# Altium footprint library Animated Archer.PcbLib: 32 footprints (part 2 of 2)
Each footprint in its own frame and in the unit in brackets; x right, y up, seen from the top. Pads: shape width x height; smd on the part's side, far side on the other; paste and mask are expansions set on the pad; w line width, h text height; cw(c..) or ccw(c..) is an arc to the next point about the centre after c.
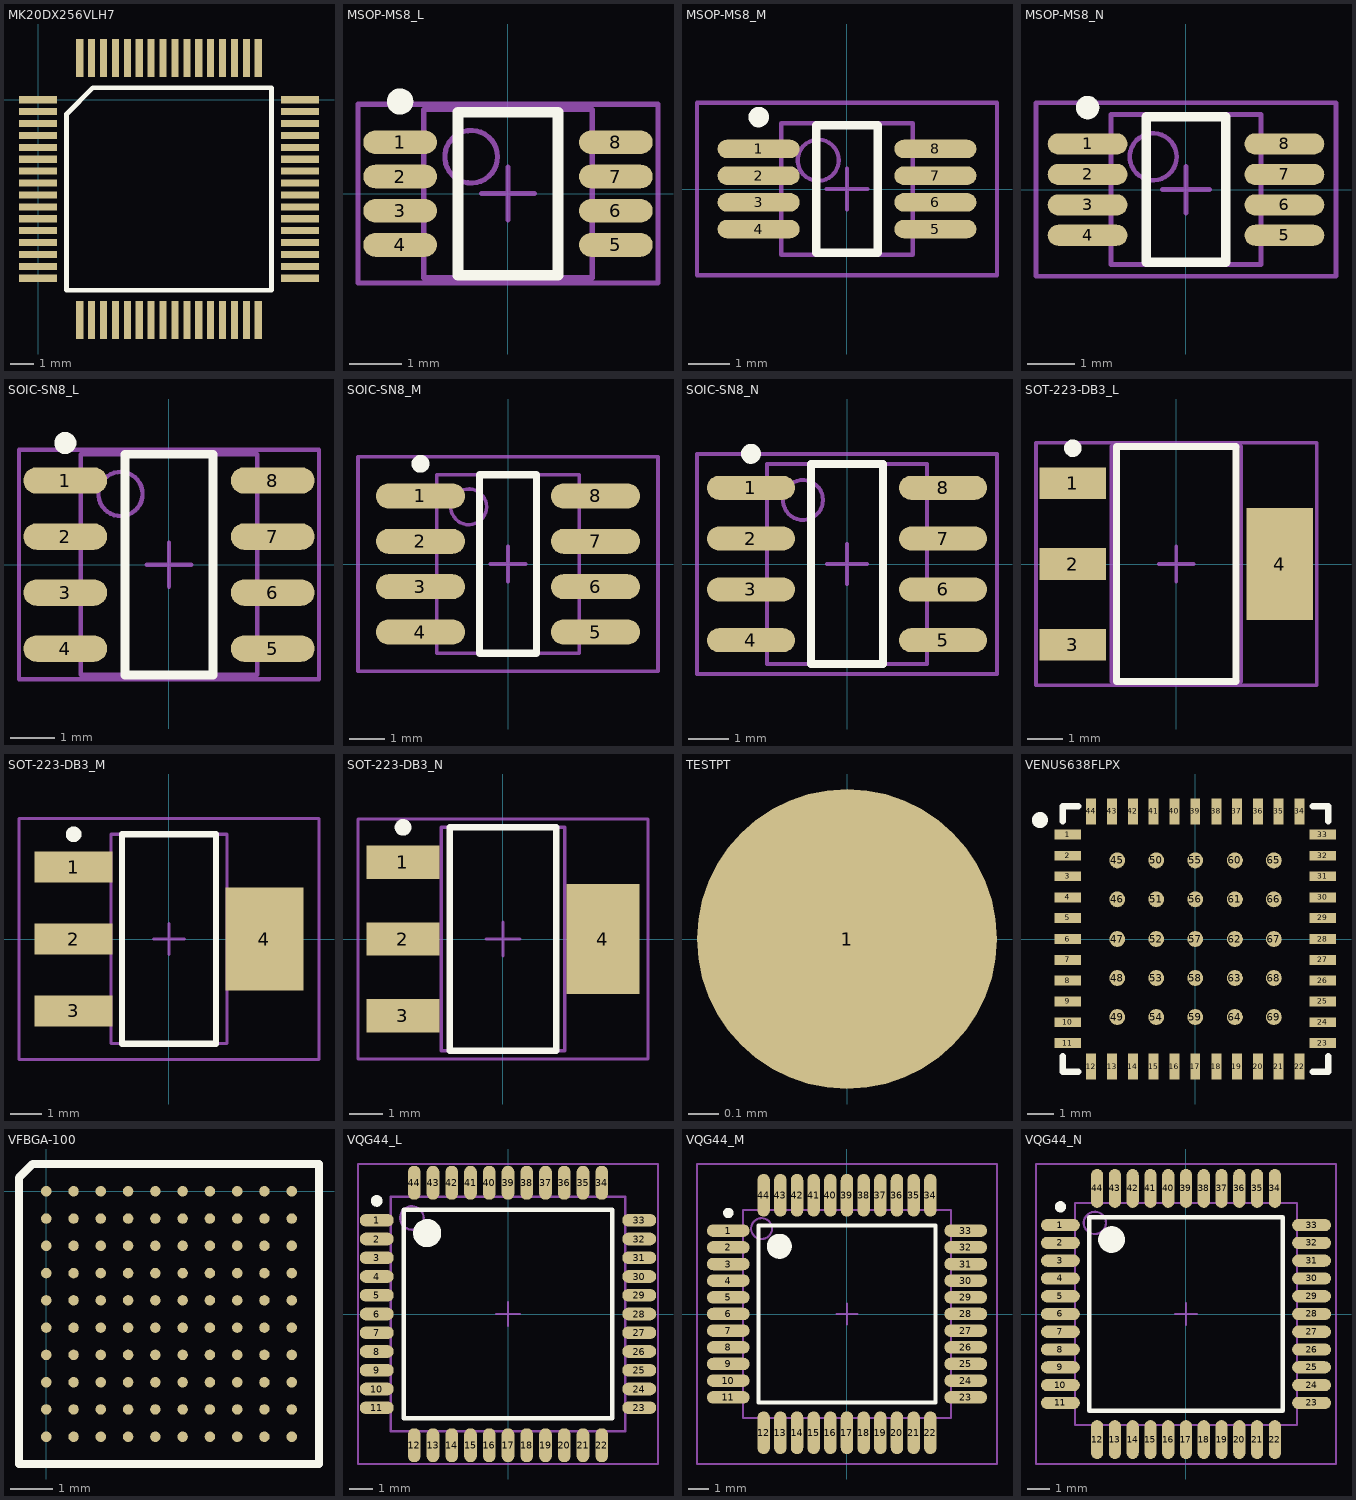
[diagram p1: the footprints below, top view; thin cyan lines are the x and y axes]

## MK20DX256VLH7 [mm] "Freescale ARM Cortex-M4"
height 1.6
pads (64):
  rect 1.6x0.3 smd mask+0.05: 1(0,0) 2(0,-0.5) 3(0,-1) 4(0,-1.5) 5(0,-2) 6(0,-2.5) 7(0,-3) 8(0,-3.5) 9(0,-4) 10(0,-4.5) 11(0,-5) 12(0,-5.5) 13(0,-6) 14(0,-6.5) 15(0,-7) 16(0,-7.5) 33(11,-7.5) 34(11,-7) 35(11,-6.5) 36(11,-6) 37(11,-5.5) 38(11,-5) 39(11,-4.5) 40(11,-4) 41(11,-3.5) 42(11,-3) 43(11,-2.5) 44(11,-2) 45(11,-1.5) 46(11,-1) 47(11,-0.5) 48(11,0)
  rect 0.3x1.6 smd mask+0.05: 17(1.75,-9.25) 18(2.25,-9.25) 19(2.75,-9.25) 20(3.25,-9.25) 21(3.75,-9.25) 22(4.25,-9.25) 23(4.75,-9.25) 24(5.25,-9.25) 25(5.75,-9.25) 26(6.25,-9.25) 27(6.75,-9.25) 28(7.25,-9.25) 29(7.75,-9.25) 30(8.25,-9.25) 31(8.75,-9.25) 32(9.25,-9.25) 49(9.25,1.75) 50(8.75,1.75) 51(8.25,1.75) 52(7.75,1.75) 53(7.25,1.75) 54(6.75,1.75) 55(6.25,1.75) 56(5.75,1.75) 57(5.25,1.75) 58(4.75,1.75) 59(4.25,1.75) 60(3.75,1.75) 61(3.25,1.75) 62(2.75,1.75) 63(2.25,1.75) 64(1.75,1.75)
Top Overlay:
  lines w0.2: 1.2,-8 1.2,-0.6 2.3,0.5 9.8,0.5 9.8,-8 1.2,-8

## MSOP-MS8_L [mm] "TSOP, 8-Leads, Body 3x3mm, Pitch 0.65mm, IPC High Density"
height 1.1
pads (8):
  oval 1.4x0.45 smd: 1(-2.05,0.975) 2(-2.05,0.325) 3(-2.05,-0.325) 4(-2.05,-0.975) 5(2.05,-0.975) 6(2.05,-0.325) 7(2.05,0.325) 8(2.05,0.975)
Top Overlay:
  circle w0.25: c-2.05,1.75 r0.125
  lines w0.2: -0.95,-1.55 0.95,-1.55 0.95,1.55 -0.95,1.55 -0.95,-1.55
Mechanical 13:
  circle w0.1: c-0.7,0.7 r0.5
  lines w0.1: -1.6,-1.6 1.6,-1.6 1.6,1.6 -1.6,1.6 -1.6,-1.6
Mechanical 15:
  lines w0.1: -0.5,0 0.5,0 ; 0,-0.5 0,0.5 ; -2.85,-1.7 2.85,-1.7 2.85,1.7 -2.85,1.7 -2.85,-1.7
3D body: height 1.1, standoff 0, extent -1.6,-1.6 1.6,1.6

## MSOP-MS8_M [mm] "TSOP, 8-Leads, Body 3x3mm, Pitch 0.65mm, IPC Low Density"
height 1.1
pads (8):
  oval 2x0.45 smd: 1(-2.15,0.975) 2(-2.15,0.325) 3(-2.15,-0.325) 4(-2.15,-0.975) 5(2.15,-0.975) 6(2.15,-0.325) 7(2.15,0.325) 8(2.15,0.975)
Top Overlay:
  circle w0.25: c-2.15,1.75 r0.125
  lines w0.2: -0.75,-1.55 0.75,-1.55 0.75,1.55 -0.75,1.55 -0.75,-1.55
Mechanical 13:
  circle w0.1: c-0.7,0.7 r0.5
  lines w0.1: -1.6,-1.6 1.6,-1.6 1.6,1.6 -1.6,1.6 -1.6,-1.6
Mechanical 15:
  lines w0.1: -0.5,0 0.5,0 ; 0,-0.5 0,0.5 ; -3.65,-2.1 3.65,-2.1 3.65,2.1 -3.65,2.1 -3.65,-2.1
3D body: height 1.1, standoff 0, extent -1.6,-1.6 1.6,1.6

## MSOP-MS8_N [mm] "TSOP, 8-Leads, Body 3x3mm, Pitch 0.65mm, IPC Medium Density"
height 1.1
pads (8):
  oval 1.7x0.45 smd: 1(-2.1,0.975) 2(-2.1,0.325) 3(-2.1,-0.325) 4(-2.1,-0.975) 5(2.1,-0.975) 6(2.1,-0.325) 7(2.1,0.325) 8(2.1,0.975)
Top Overlay:
  circle w0.25: c-2.1,1.75 r0.125
  lines w0.2: -0.85,-1.55 0.85,-1.55 0.85,1.55 -0.85,1.55 -0.85,-1.55
Mechanical 13:
  circle w0.1: c-0.7,0.7 r0.5
  lines w0.1: -1.6,-1.6 1.6,-1.6 1.6,1.6 -1.6,1.6 -1.6,-1.6
Mechanical 15:
  lines w0.1: -0.5,0 0.5,0 ; 0,-0.5 0,0.5 ; -3.2,-1.85 3.2,-1.85 3.2,1.85 -3.2,1.85 -3.2,-1.85
3D body: height 1.1, standoff 0, extent -1.6,-1.6 1.6,1.6

## SOIC-SN8_L [mm] "SOIC, 8-Leads, Body 4.9x3.8mm, Pitch 1.27mm, IPC High Density"
height 1.75
pads (8):
  oval 1.9x0.6 smd: 1(-2.35,1.905) 2(-2.35,0.635) 3(-2.35,-0.635) 4(-2.35,-1.905) 5(2.35,-1.905) 6(2.35,-0.635) 7(2.35,0.635) 8(2.35,1.905)
Top Overlay:
  circle w0.25: c-2.35,2.755 r0.125
  lines w0.2: -1,-2.5 -1,2.5 1,2.5 1,-2.5 -1,-2.5
Mechanical 13:
  circle w0.1: c-1.1,1.6 r0.5
  lines w0.1: -2,-2.5 -2,2.5 2,2.5 2,-2.5 -2,-2.5
Mechanical 15:
  lines w0.1: -0.5,0 0.5,0 ; 0,-0.5 0,0.5 ; -3.4,-2.6 -3.4,2.6 3.4,2.6 3.4,-2.6 -3.4,-2.6
3D body: height 1.75, standoff 0, extent -2,-2.5 2,2.5

## SOIC-SN8_M [mm] "SOIC, 8-Leads, Body 4.9x3.8mm, Pitch 1.27mm, IPC Low Density"
height 1.75
pads (8):
  oval 2.5x0.7 smd: 1(-2.45,1.905) 2(-2.45,0.635) 3(-2.45,-0.635) 4(-2.45,-1.905) 5(2.45,-1.905) 6(2.45,-0.635) 7(2.45,0.635) 8(2.45,1.905)
Top Overlay:
  circle w0.25: c-2.45,2.805 r0.125
  lines w0.2: -0.8,-2.5 0.8,-2.5 0.8,2.5 -0.8,2.5 -0.8,-2.5
Mechanical 13:
  circle w0.1: c-1.1,1.6 r0.5
  lines w0.1: -2,-2.5 2,-2.5 2,2.5 -2,2.5 -2,-2.5
Mechanical 15:
  lines w0.1: -0.5,0 0.5,0 ; 0,-0.5 0,0.5 ; -4.2,-3 4.2,-3 4.2,3 -4.2,3 -4.2,-3
3D body: height 1.75, standoff 0, extent -2,-2.5 2,2.5

## SOIC-SN8_N [mm] "SOIC, 8-Leads, Body 4.9x3.8mm, Pitch 1.27mm, IPC Medium Density"
height 1.75
pads (8):
  oval 2.2x0.6 smd: 1(-2.4,1.905) 2(-2.4,0.635) 3(-2.4,-0.635) 4(-2.4,-1.905) 5(2.4,-1.905) 6(2.4,-0.635) 7(2.4,0.635) 8(2.4,1.905)
Top Overlay:
  circle w0.25: c-2.4,2.755 r0.125
  lines w0.2: -0.9,-2.5 0.9,-2.5 0.9,2.5 -0.9,2.5 -0.9,-2.5
Mechanical 13:
  circle w0.1: c-1.1,1.6 r0.5
  lines w0.1: -2,-2.5 2,-2.5 2,2.5 -2,2.5 -2,-2.5
Mechanical 15:
  lines w0.1: -0.5,0 0.5,0 ; 0,-0.5 0,0.5 ; -3.75,-2.75 3.75,-2.75 3.75,2.75 -3.75,2.75 -3.75,-2.75
3D body: height 1.75, standoff 0, extent -2,-2.5 2,2.5

## SOT-223-DB3_L [mm] "SOT223, 4-Leads, Body 6.5x3.5mm, Pitch 2.3mm, Lead Span 7mm, IPC High Density"
height 1.8
pads (4):
  rect 1.9x0.9 smd: 1(-2.95,2.3) 2(-2.95,0) 3(-2.95,-2.3)
  rect 1.9x3.2 smd: 4(2.95,0)
Top Overlay:
  circle w0.25: c-2.95,3.3 r0.125
  lines w0.2: -1.7,-3.35 1.7,-3.35 1.7,3.35 -1.7,3.35 -1.7,-3.35
Mechanical 13:
  lines w0.1: -1.85,-3.35 1.85,-3.35 1.85,3.35 -1.85,3.35 -1.85,-3.35
Mechanical 15:
  lines w0.1: -0.5,0 0.5,0 ; 0,-0.5 0,0.5 ; -4,-3.45 4,-3.45 4,3.45 -4,3.45 -4,-3.45
3D body: height 1.8, standoff 0, extent -1.85,-3.35 1.85,3.35

## SOT-223-DB3_M [mm] "SOT223, 4-Leads, Body 6.5x3.5mm, Pitch 2.3mm, Lead Span 7mm, IPC Low Density"
height 1.8
pads (4):
  rect 2.5x1 smd: 1(-3.05,2.3) 2(-3.05,0) 3(-3.05,-2.3)
  rect 2.5x3.3 smd: 4(3.05,0)
Top Overlay:
  circle w0.25: c-3.05,3.35 r0.125
  lines w0.2: -1.5,-3.35 1.5,-3.35 1.5,3.35 -1.5,3.35 -1.5,-3.35
Mechanical 13:
  lines w0.1: -1.85,-3.35 1.85,-3.35 1.85,3.35 -1.85,3.35 -1.85,-3.35
Mechanical 15:
  lines w0.1: -0.5,0 0.5,0 ; 0,-0.5 0,0.5 ; -4.8,-3.85 4.8,-3.85 4.8,3.85 -4.8,3.85 -4.8,-3.85
3D body: height 1.8, standoff 0, extent -1.85,-3.35 1.85,3.35

## SOT-223-DB3_N [mm] "SOT223, 4-Leads, Body 6.5x3.5mm, Pitch 2.3mm, Lead Span 7mm, IPC Medium Density"
height 1.8
pads (4):
  rect 2.2x1 smd: 1(-3,2.3) 2(-3,0) 3(-3,-2.3)
  rect 2.2x3.3 smd: 4(3,0)
Top Overlay:
  circle w0.25: c-3,3.35 r0.125
  lines w0.2: -1.6,-3.35 1.6,-3.35 1.6,3.35 -1.6,3.35 -1.6,-3.35
Mechanical 13:
  lines w0.1: -1.85,-3.35 1.85,-3.35 1.85,3.35 -1.85,3.35 -1.85,-3.35
Mechanical 15:
  lines w0.1: -0.5,0 0.5,0 ; 0,-0.5 0,0.5 ; -4.35,-3.6 4.35,-3.6 4.35,3.6 -4.35,3.6 -4.35,-3.6
3D body: height 1.8, standoff 0, extent -1.85,-3.35 1.85,3.35

## TESTPT [mm] "Test Point"
pads (1):
  round 1 smd: 1(0,0)

## VENUS638FLPX [mil] "VENUS638FLPX"
pads (69):
  rect 40x15 smd: 1(-192.91,158) 2(-192.91,126) 3(-192.91,95) 4(-192.91,63) 5(-192.91,32) 6(-192.91,0) 7(-192.91,-31.5) 8(-192.91,-62.99) 9(-192.91,-94.49) 10(-192.91,-125.98) 11(-192.91,-157.48) 23(193,-157.48) 24(193,-125.98) 25(193,-94.49) 26(193,-62.99) 27(193,-31.5) 28(193,0) 29(193,32) 30(193,63) 31(193,95) 32(193,126) 33(193,158)
  rect 15x40 smd: 12(-157.48,-192.91) 13(-125.98,-192.91) 14(-94.49,-192.91) 15(-62.99,-192.91) 16(-31.5,-192.91) 17(0,-192.91) 18(32,-192.91) 19(63,-192.91) 20(95,-192.91) 21(126,-192.91) 22(158,-192.91) 34(158,193) 35(126,193) 36(95,193) 37(63,193) 38(32,193) 39(0,193) 40(-31.5,193) 41(-62.99,193) 42(-94.49,193) 43(-125.98,193) 44(-157.48,193)
  rrect100% 24x24 smd: 45(-118.11,119) 46(-118.11,60) 47(-118.11,0) 48(-118.11,-59.06) 49(-118.11,-118.11) 50(-59.06,119) 51(-59.06,60) 52(-59.06,0) 53(-59.06,-59.06) 54(-59.06,-118.11) 55(0,119) 56(0,60) 57(0,0) 58(0,-59.06) 59(0,-118.11) 60(60,119) 61(60,60) 62(60,0) 63(60,-59.06) 64(60,-118.11) 65(119,119) 66(119,60) 67(119,0) 68(119,-59.06) 69(119,-118.11)
Top Overlay:
  circle w12: c-235,180 r6
  lines w10: -200.79,-177.17 -200.79,-200.79 -177.17,-200.79 ; -200.79,178 -200.79,201 -177.17,201 ; 178,-200.79 201,-200.79 201,-177.17 ; 178,201 201,201 201,178

## VFBGA-100 [mm] "0.65mm Pitch 0.3mm Diameter 100-pin Ball Grid Array"
height 0.45
pads (100):
  round 0.25 smd paste+0.01 mask+0.055: ADVREFN(0,-1.95) ADVREFP(0.65,-2.6) GND(1.3,-5.85) GND(1.3,0) GND(5.2,0) GND(5.85,-0.65) GNDANA(0.65,-1.95) PA00(5.2,-0.65) PA01(4.55,-0.65) PA02(3.9,0) PA03(1.3,-0.65) PA04(0.65,0) PA05(0,0) PA06(1.3,-1.3) PA07(1.3,-1.95) PA08(0.65,-3.9) PA09(2.6,-3.25) PA10(0.65,-4.55) PA11(1.3,-4.55) PA12(0.65,-5.2) PA13(2.6,-4.55) PA14(3.9,-5.85) PA15(2.6,-3.9) PA16(3.9,-5.2) PA17(3.25,-4.55) PA18(5.85,-5.85) PA19(5.85,-5.2) PA20(5.85,-4.55) PA21(5.2,-2.6) PA22(5.85,-2.6) PA23(3.25,-1.95) PA24(5.85,-1.95) PA25(5.2,-1.95) PA26(5.2,-1.3) PA27(0,-5.85) PA28(0,-5.2) PA29(0.65,-5.85) PA30(1.95,-5.85) PA31(2.6,-5.85) PB00(1.3,-5.2) PB01(2.6,-1.95) PB02(2.6,-2.6) PB03(1.95,-1.3) PB04(0,-1.3) PB05(0,-0.65) PB06(1.3,-3.9) PB07(0,-4.55) PB08(3.25,-3.9) PB09(3.9,-3.9) PB10(4.55,-3.9) PB11(5.2,-5.85) PB12(3.9,-2.6) PB13(4.55,-2.6) PB14(3.9,-1.95) PB15(4.55,-1.95) PC00(5.85,0) PC01(4.55,-1.3) PC02(3.9,-1.3) PC03(3.9,-0.65) PC04(2.6,-1.3) PC05(3.25,-1.3) PC06(3.25,-0.65) PC07(0.65,-3.25) PC08(1.3,-2.6) PC09(0,-3.25) PC10(1.95,-1.95) PC11(1.95,-2.6) PC12(1.3,-3.25) PC13(1.95,-3.25) PC14(0,-3.9) PC15(2.6,-5.2) PC16(3.25,-5.2) PC17(1.95,-4.55) PC18(3.25,-5.85) PC19(1.95,-3.9) PC20(3.9,-4.55) PC21(4.55,-5.85) PC22(4.55,-5.2) PC23(4.55,-4.55) PC24(5.2,-5.2) PC25(5.2,-4.55) PC26(5.2,-3.9) PC27(3.25,-3.25) PC28(5.85,-3.9) PC29(3.9,-3.25) PC30(4.55,-3.25) PC31(5.2,-3.25) RESET_N(2.6,-0.65) TCK(1.95,-0.65) VDDANA(0,-2.6) VDDCORE(3.25,0) VDDIN(1.95,0) VDDIO(1.95,-5.2) VDDIO(3.25,-2.6) VDDIO(4.55,0) VDDIO(5.85,-3.25) VDDIO(5.85,-1.3) VDDOUT(2.6,0) XIN32(0.65,-0.65) XOUT32(0.65,-1.3)
Top Overlay:
  lines w0.2: -0.65,-6.5 6.5,-6.5 6.5,0.65 -0.325,0.65 -0.65,0.325 -0.65,-6.5

## VQG44_L [mm] "Thin QFP, 44-Leads, Body 10x10mm, Pitch 0.8mm, IPC High Density"
height 1.2
pads (44):
  oval 1.45x0.55 smd: 1(-5.6,4) 2(-5.6,3.2) 3(-5.6,2.4) 4(-5.6,1.6) 5(-5.6,0.8) 6(-5.6,0) 7(-5.6,-0.8) 8(-5.6,-1.6) 9(-5.6,-2.4) 10(-5.6,-3.2) 11(-5.6,-4) 23(5.6,-4) 24(5.6,-3.2) 25(5.6,-2.4) 26(5.6,-1.6) 27(5.6,-0.8) 28(5.6,0) 29(5.6,0.8) 30(5.6,1.6) 31(5.6,2.4) 32(5.6,3.2) 33(5.6,4)
  oval 0.55x1.45 smd: 12(-4,-5.6) 13(-3.2,-5.6) 14(-2.4,-5.6) 15(-1.6,-5.6) 16(-0.8,-5.6) 17(0,-5.6) 18(0.8,-5.6) 19(1.6,-5.6) 20(2.4,-5.6) 21(3.2,-5.6) 22(4,-5.6) 34(4,5.6) 35(3.2,5.6) 36(2.4,5.6) 37(1.6,5.6) 38(0.8,5.6) 39(0,5.6) 40(-0.8,5.6) 41(-1.6,5.6) 42(-2.4,5.6) 43(-3.2,5.6) 44(-4,5.6)
Top Overlay:
  circle w0.6: c-3.45,3.45 r0.3
  circle w0.25: c-5.6,4.825 r0.125
  lines w0.2: -4.45,-4.45 4.45,-4.45 4.45,4.45 -4.45,4.45 -4.45,-4.45
Mechanical 13:
  circle w0.1: c-4.1,4.1 r0.5
  lines w0.1: -5,-5 5,-5 5,5 -5,5 -5,-5
Mechanical 15:
  lines w0.1: -0.5,0 0.5,0 ; 0,-0.5 0,0.5 ; -6.4,-6.4 6.4,-6.4 6.4,6.4 -6.4,6.4 -6.4,-6.4
3D body: height 1.2, standoff 0, extent -5,-5 5,5

## VQG44_M [mm] "Thin QFP, 44-Leads, Body 10x10mm, Pitch 0.8mm, IPC Low Density"
height 1.2
pads (44):
  oval 2.05x0.6 smd: 1(-5.7,4) 2(-5.7,3.2) 3(-5.7,2.4) 4(-5.7,1.6) 5(-5.7,0.8) 6(-5.7,0) 7(-5.7,-0.8) 8(-5.7,-1.6) 9(-5.7,-2.4) 10(-5.7,-3.2) 11(-5.7,-4) 23(5.7,-4) 24(5.7,-3.2) 25(5.7,-2.4) 26(5.7,-1.6) 27(5.7,-0.8) 28(5.7,0) 29(5.7,0.8) 30(5.7,1.6) 31(5.7,2.4) 32(5.7,3.2) 33(5.7,4)
  oval 0.6x2.05 smd: 12(-4,-5.7) 13(-3.2,-5.7) 14(-2.4,-5.7) 15(-1.6,-5.7) 16(-0.8,-5.7) 17(0,-5.7) 18(0.8,-5.7) 19(1.6,-5.7) 20(2.4,-5.7) 21(3.2,-5.7) 22(4,-5.7) 34(4,5.7) 35(3.2,5.7) 36(2.4,5.7) 37(1.6,5.7) 38(0.8,5.7) 39(0,5.7) 40(-0.8,5.7) 41(-1.6,5.7) 42(-2.4,5.7) 43(-3.2,5.7) 44(-4,5.7)
Top Overlay:
  circle w0.6: c-3.25,3.25 r0.3
  circle w0.25: c-5.7,4.85 r0.125
  lines w0.2: -4.25,-4.25 4.25,-4.25 4.25,4.25 -4.25,4.25 -4.25,-4.25
Mechanical 13:
  circle w0.1: c-4.1,4.1 r0.5
  lines w0.1: -5,-5 5,-5 5,5 -5,5 -5,-5
Mechanical 15:
  lines w0.1: -0.5,0 0.5,0 ; 0,-0.5 0,0.5 ; -7.2,-7.2 7.2,-7.2 7.2,7.2 -7.2,7.2 -7.2,-7.2
3D body: height 1.2, standoff 0, extent -5,-5 5,5

## VQG44_N [mm] "Thin QFP, 44-Leads, Body 10x10mm, Pitch 0.8mm, IPC Medium Density"
height 1.2
pads (44):
  oval 1.75x0.55 smd: 1(-5.65,4) 2(-5.65,3.2) 3(-5.65,2.4) 4(-5.65,1.6) 5(-5.65,0.8) 6(-5.65,0) 7(-5.65,-0.8) 8(-5.65,-1.6) 9(-5.65,-2.4) 10(-5.65,-3.2) 11(-5.65,-4) 23(5.65,-4) 24(5.65,-3.2) 25(5.65,-2.4) 26(5.65,-1.6) 27(5.65,-0.8) 28(5.65,0) 29(5.65,0.8) 30(5.65,1.6) 31(5.65,2.4) 32(5.65,3.2) 33(5.65,4)
  oval 0.55x1.75 smd: 12(-4,-5.65) 13(-3.2,-5.65) 14(-2.4,-5.65) 15(-1.6,-5.65) 16(-0.8,-5.65) 17(0,-5.65) 18(0.8,-5.65) 19(1.6,-5.65) 20(2.4,-5.65) 21(3.2,-5.65) 22(4,-5.65) 34(4,5.65) 35(3.2,5.65) 36(2.4,5.65) 37(1.6,5.65) 38(0.8,5.65) 39(0,5.65) 40(-0.8,5.65) 41(-1.6,5.65) 42(-2.4,5.65) 43(-3.2,5.65) 44(-4,5.65)
Top Overlay:
  circle w0.25: c-5.65,4.825 r0.125
  circle w0.6: c-3.35,3.35 r0.3
  lines w0.2: -4.35,-4.35 -4.35,4.35 4.35,4.35 4.35,-4.35 -4.35,-4.35
Mechanical 13:
  circle w0.1: c-4.1,4.1 r0.5
  lines w0.1: -5,-5 -5,5 5,5 5,-5 -5,-5
Mechanical 15:
  lines w0.1: -0.5,0 0.5,0 ; 0,-0.5 0,0.5 ; -6.75,-6.75 -6.75,6.75 6.75,6.75 6.75,-6.75 -6.75,-6.75
3D body: height 1.2, standoff 0, extent -5,-5 5,5